# Altium footprint library Inductor_SMD.PcbLib: 587 footprints (part 23 of 37)
Each footprint in its own frame and in the unit in brackets; x right, y up, seen from the top. Pads: shape width x height; smd on the part's side, far side on the other; paste and mask are expansions set on the pad; w line width, h text height; cw(c..) or ccw(c..) is an arc to the next point about the centre after c.
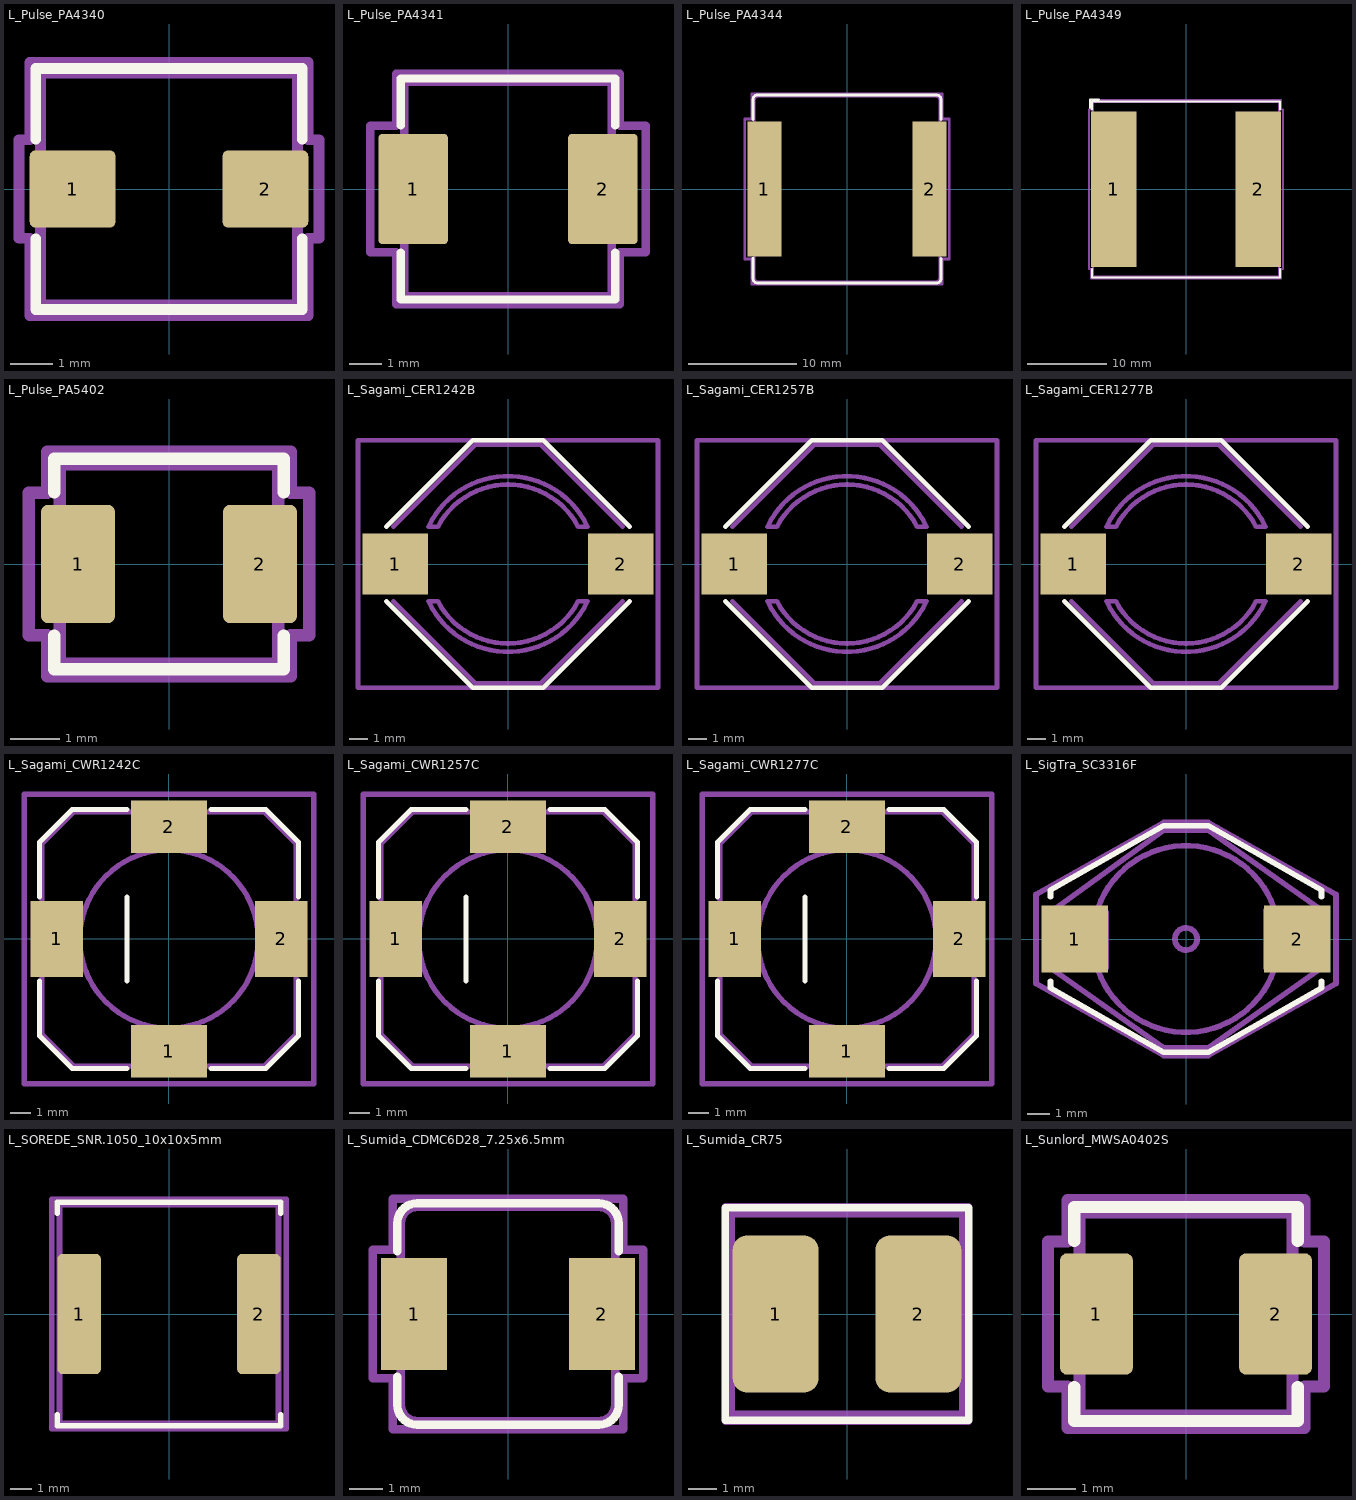
[diagram p22: the footprints below, top view; thin cyan lines are the x and y axes]

## L_Pulse_PA4340 [mm] "L_Pulse_PA4340"
pads (2):
  rrect14% 2x1.8 smd: 1(-2.25,0) 2(2.25,0)
F.SilkS:
  lines w0.254: -3.11,-1.16 -3.11,-2.81 3.11,-2.81 3.11,-1.16 ; -3.11,1.16 -3.11,2.81 3.11,2.81 3.11,1.16
Top Assembly:
  lines w0.254: -3,-2.7 3,-2.7 3,2.7 -3,2.7 -3,-2.7
  text "'.Designator'" at -4.047,-0.84 h1
Top Courtyard:
  lines w0.254: -3.5,-1.15 -3.25,-1.15 -3.25,-2.95 3.25,-2.95 3.25,-1.15 3.5,-1.15 3.5,1.15 3.25,1.15 3.25,2.95 -3.25,2.95 -3.25,1.15 -3.5,1.15 -3.5,-1.15
Top Designator:
  text ".Designator" at -7.768,-0.508 h1.52
3D body "L_Pulse_PA4340.step": height 3, standoff 0, extent -3.01,-2.7 3.01,2.7

## L_Pulse_PA4341 [mm] "L_Pulse_PA4341"
pads (2):
  rrect12% 2.15x3.4 smd: 1(-2.925,0) 2(2.925,0)
F.SilkS:
  lines w0.254: -3.31,-1.96 -3.31,-3.41 3.31,-3.41 3.31,-1.96 ; -3.31,1.96 -3.31,3.41 3.31,3.41 3.31,1.96
Top Assembly:
  lines w0.254: -3.2,-3.3 3.2,-3.3 3.2,3.3 -3.2,3.3 -3.2,-3.3
  text "'.Designator'" at -4.047,-0.84 h1
Top Courtyard:
  lines w0.254: -4.25,-1.95 -3.45,-1.95 -3.45,-3.55 3.45,-3.55 3.45,-1.95 4.25,-1.95 4.25,1.95 3.45,1.95 3.45,3.55 -3.45,3.55 -3.45,1.95 -4.25,1.95 -4.25,-1.95
Top Designator:
  text ".Designator" at -7.618,-0.508 h1.52
3D body "L_Pulse_PA4341.step": height 2.8, standoff 0, extent -3.56,-3.3 3.56,3.3

## L_Pulse_PA4344 [mm] "L_Pulse_PA4344"
pads (2):
  rect 3.15x12.5 smd: 1(-7.675,0) 2(7.675,0)
F.SilkS:
  lines w0.254: -8.721,8.35 cw(c-8.35,8.35) -8.37,8.72 ; -8.72,-8.36 ccw(c-8.35,-8.35) -8.35,-8.72 8.35,-8.72 ccw(c8.35,-8.35) 8.72,-8.35 8.72,-6.45 ; -8.72,-8.34 -8.72,-6.44 ; -8.72,6.45 -8.72,8.35 ; -8.35,8.72 8.35,8.72 cw(c8.35,8.35) 8.72,8.36 8.72,6.46
Top Assembly:
  lines w0.254: -8.6,-8.3 ccw(c-8.3,-8.3) -8.3,-8.6 8.3,-8.6 ccw(c8.3,-8.3) 8.6,-8.3 8.6,8.3 ccw(c8.3,8.3) 8.3,8.6 -8.3,8.6 ccw(c-8.3,8.3) -8.6,8.3 -8.6,-8.3
  text "'.Designator'" at -4.047,-0.84 h1
Top Courtyard:
  lines w0.254: -9.5,-6.5 -8.85,-6.5 -8.85,-8.85 8.85,-8.85 8.85,-6.5 9.5,-6.5 9.5,6.5 8.85,6.5 8.85,8.85 -8.85,8.85 -8.85,6.5 -9.5,6.5 -9.5,-6.5
Top Designator:
  text ".Designator" at -7.618,-0.508 h1.52

## L_Pulse_PA4349 [mm] "L_Pulse_PA4349"
pads (2):
  rect 5.75x19.6 smd: 1(-9.125,0) 2(9.125,0)
F.SilkS:
  lines w0.254: -12.1,10.25 -12.1,11.35 -11,11.35 ; -11.85,-10.06 -11.85,-11.1 11.85,-11.1 11.85,-10.06 ; -11.85,10.06 -11.85,11.1 11.85,11.1 11.85,10.06
Top Assembly:
  lines w0.254: -11.75,-11 11.75,-11 11.75,11 -11.75,11 -11.75,-11
  text "'.Designator'" at -4.047,-0.84 h1
Top Courtyard:
  lines w0.254: -12.25,-10.05 -12,-10.05 -12,-11.25 12,-11.25 12,-10.05 12.25,-10.05 12.25,10.05 12,10.05 12,11.25 -12,11.25 -12,10.05 -12.25,10.05 -12.25,-10.05
Top Designator:
  text ".Designator" at -7.618,-0.458 h1.52

## L_Pulse_PA5402 [mm] "L_Pulse_PA5402"
pads (2):
  rrect17% 1.5x2.4 smd: 1(-1.85,0) 2(1.85,0)
F.SilkS:
  lines w0.254: -2.335,-1.46 -2.335,-2.14 2.335,-2.14 2.335,-1.46 ; -2.335,1.46 -2.335,2.14 2.335,2.14 2.335,1.46
Top Assembly:
  lines w0.254: -2.225,-2.03 -2.225,2.03 2.225,2.03 2.225,-2.03 -2.225,-2.03
  text "'.Designator'" at -4.047,-0.84 h1
Top Courtyard:
  lines w0.254: -2.85,-1.45 -2.85,1.45 -2.48,1.45 -2.48,2.28 2.48,2.28 2.48,1.45 2.85,1.45 2.85,-1.45 2.48,-1.45 2.48,-2.28 -2.48,-2.28 -2.48,-1.45 -2.85,-1.45
Top Designator:
  text ".Designator" at -7.768,-0.508 h1.52
3D body "L_Pulse_PA5402.step": height 1.8, standoff 0, extent -2.235,-2.03 2.235,2.03

## L_Sagami_CER1242B [mm] "L_Sagami_CER1242B"
pads (2):
  rect 3.55x3.3 smd: 1(-6.125,0) 2(6.125,0)
F.SilkS:
  lines w0.254: -6.604,-2.032 -1.905,-6.731 1.905,-6.731 6.604,-2.032 ; -6.604,2.032 -1.905,6.731 1.905,6.731 6.604,2.032
Top Assembly:
  lines w0.254: -6.223,-2.032 -1.778,-6.477 1.778,-6.477 6.223,-2.032 ; -6.223,2.032 -1.778,6.477 1.778,6.477 6.223,2.032 ; -2.032,-4.318 ccw(c0,0) 4.318,-2.032 3.81,-2.032 cw(c0,0) -2.032,-3.81 ; -2.032,3.81 cw(c0,0) 3.81,2.032 4.318,2.032 ccw(c0,0) -2.032,4.318 ; 2.032,-4.318 cw(c0,0) -4.318,-2.032 -3.81,-2.032 ccw(c0,0) 2.032,-3.81 ; 2.032,3.81 ccw(c0,0) -3.81,2.032 -4.318,2.032 cw(c0,0) 2.032,4.318
  text "'.Designator'" at -4.047,-0.84 h1
Top Courtyard:
  lines w0.254: -8.15,-6.73 -8.15,6.73 8.15,6.73 8.15,-6.73 -8.15,-6.73
Top Designator:
  text ".Designator" at -7.618,-0.508 h1.52

## L_Sagami_CER1257B [mm] "L_Sagami_CER1257B"
pads (2):
  rect 3.55x3.3 smd: 1(-6.125,0) 2(6.125,0)
F.SilkS:
  lines w0.254: -6.604,-2.032 -1.905,-6.731 1.905,-6.731 6.604,-2.032 ; -6.604,2.032 -1.905,6.731 1.905,6.731 6.604,2.032
Top Assembly:
  lines w0.254: -6.223,-2.032 -1.778,-6.477 1.778,-6.477 6.223,-2.032 ; -6.223,2.032 -1.778,6.477 1.778,6.477 6.223,2.032 ; -2.032,-4.318 ccw(c0,0) 4.318,-2.032 3.81,-2.032 cw(c0,0) -2.032,-3.81 ; -2.032,3.81 cw(c0,0) 3.81,2.032 4.318,2.032 ccw(c0,0) -2.032,4.318 ; 2.032,-4.318 cw(c0,0) -4.318,-2.032 -3.81,-2.032 ccw(c0,0) 2.032,-3.81 ; 2.032,3.81 ccw(c0,0) -3.81,2.032 -4.318,2.032 cw(c0,0) 2.032,4.318
  text "'.Designator'" at -4.047,-0.84 h1
Top Courtyard:
  lines w0.254: -8.15,-6.73 -8.15,6.73 8.15,6.73 8.15,-6.73 -8.15,-6.73
Top Designator:
  text ".Designator" at -7.618,-0.508 h1.52

## L_Sagami_CER1277B [mm] "L_Sagami_CER1277B"
pads (2):
  rect 3.55x3.3 smd: 1(-6.125,0) 2(6.125,0)
F.SilkS:
  lines w0.254: -6.604,-2.032 -1.905,-6.731 1.905,-6.731 6.604,-2.032 ; -6.604,2.032 -1.905,6.731 1.905,6.731 6.604,2.032
Top Assembly:
  lines w0.254: -6.223,-2.032 -1.778,-6.477 1.778,-6.477 6.223,-2.032 ; -6.223,2.032 -1.778,6.477 1.778,6.477 6.223,2.032 ; -2.032,-4.318 ccw(c0,0) 4.318,-2.032 3.81,-2.032 cw(c0,0) -2.032,-3.81 ; -2.032,3.81 cw(c0,0) 3.81,2.032 4.318,2.032 ccw(c0,0) -2.032,4.318 ; 2.032,-4.318 cw(c0,0) -4.318,-2.032 -3.81,-2.032 ccw(c0,0) 2.032,-3.81 ; 2.032,3.81 ccw(c0,0) -3.81,2.032 -4.318,2.032 cw(c0,0) 2.032,4.318
  text "'.Designator'" at -4.047,-0.84 h1
Top Courtyard:
  lines w0.254: -8.15,-6.73 8.15,-6.73 8.15,6.73 -8.15,6.73 -8.15,-6.73
Top Designator:
  text ".Designator" at -7.618,-0.508 h1.52

## L_Sagami_CWR1242C [mm] "L_Sagami_CWR1242C"
pads (4):
  rect 2.5x3.6 smd: 1(-5.35,0) 2(5.35,0)
  rect 3.6x2.5 smd: 1(0,-5.35) 2(0,5.35)
F.SilkS:
  lines w0.254: -6.17,-2 -6.17,-4.61 -4.61,-6.17 -2,-6.17 ; -6.17,2 -6.17,4.61 -4.61,6.17 -2,6.17 ; -2,-2 -2,2 ; 2,-6.17 4.61,-6.17 6.17,-4.61 6.17,-2 ; 2,6.17 4.61,6.17 6.17,4.61 6.17,2
Top Assembly:
  circle w0.254: c0,0 r4.25
  lines w0.254: -6.05,-4.55 -4.55,-6.05 4.55,-6.05 6.05,-4.55 6.05,4.55 4.55,6.05 -4.55,6.05 -6.05,4.55 -6.05,-4.55
  text "'.Designator'" at -3.997,-0.79 h1
Top Courtyard:
  lines w0.254: -6.9,-6.9 6.9,-6.9 6.9,6.9 -6.9,6.9 -6.9,-6.9
Top Designator:
  text ".Designator" at -7.618,-0.508 h1.52

## L_Sagami_CWR1257C [mm] "L_Sagami_CWR1257C"
pads (4):
  rect 2.5x3.6 smd: 1(-5.35,0) 2(5.35,0)
  rect 3.6x2.5 smd: 1(0,-5.35) 2(0,5.35)
F.SilkS:
  lines w0.254: -6.17,-2 -6.17,-4.61 -4.61,-6.17 -2,-6.17 ; -6.17,2 -6.17,4.61 -4.61,6.17 -2,6.17 ; -2,-2 -2,2 ; 2,-6.17 4.61,-6.17 6.17,-4.61 6.17,-2 ; 2,6.17 4.61,6.17 6.17,4.61 6.17,2
Top Assembly:
  circle w0.254: c0,0 r4.25
  lines w0.254: -6.05,-4.55 -4.55,-6.05 4.55,-6.05 6.05,-4.55 6.05,4.55 4.55,6.05 -4.55,6.05 -6.05,4.55 -6.05,-4.55
  text "'.Designator'" at -3.997,-0.79 h1
Top Courtyard:
  lines w0.254: -6.9,-6.9 6.9,-6.9 6.9,6.9 -6.9,6.9 -6.9,-6.9
Top Designator:
  text ".Designator" at -7.618,-0.508 h1.52

## L_Sagami_CWR1277C [mm] "L_Sagami_CWR1277C"
pads (4):
  rect 2.5x3.6 smd: 1(-5.35,0) 2(5.35,0)
  rect 3.6x2.5 smd: 1(0,-5.35) 2(0,5.35)
F.SilkS:
  lines w0.254: -6.17,-2 -6.17,-4.61 -4.61,-6.17 -2,-6.17 ; -6.17,2 -6.17,4.61 -4.61,6.17 -2,6.17 ; -2,-2 -2,2 ; 2,-6.17 4.61,-6.17 6.17,-4.61 6.17,-2 ; 2,6.17 4.61,6.17 6.17,4.61 6.17,2
Top Assembly:
  circle w0.254: c0,0 r4.25
  lines w0.254: -6.05,-4.55 -4.55,-6.05 4.55,-6.05 6.05,-4.55 6.05,4.55 4.55,6.05 -4.55,6.05 -6.05,4.55 -6.05,-4.55
  text "'.Designator'" at -3.997,-0.79 h1
Top Courtyard:
  lines w0.254: -6.9,-6.9 6.9,-6.9 6.9,6.9 -6.9,6.9 -6.9,-6.9
Top Designator:
  text ".Designator" at -7.618,-0.508 h1.52

## L_SigTra_SC3316F [mm] "L_SigTra_SC3316F"
pads (2):
  rect 3x3 smd: 1(-5,0) 2(5,0)
F.SilkS:
  lines w0.254: -6.1,-1.9 -6.1,-2.2 -1,-5.1 1,-5.1 6.1,-2.2 6.1,-1.9 ; -6.1,1.9 -6.1,2.2 -1,5.1 1,5.1 6.1,2.2 6.1,1.9
Top Assembly:
  circle w0.254: c0,0 r4.2
  lines w0.254: -6.1,-1.3 -6.1,1.2 ; -6.1,-1.3 -3.6,-1.3 -3.6,0 -3.6,1.2 -6.1,1.2 ; -6.1,-1.3 -1,-4.9 1,-4.9 6.1,-1.3 ; -6.1,1.2 -1,4.9 1,4.9 6.1,1.3 ; 6.1,-1.3 6.1,1.3 ; 6.1,-1.3 3.6,-1.3 3.6,1.3 6.1,1.3
  text "'.Designator'" at -4.047,-0.84 h1
Top Courtyard:
  lines w0.254: -6.75,-2 -6.75,2 -1,5.25 1,5.25 6.75,2 6.75,-2 1,-5.25 -1,-5.25 -6.75,-2
Top Designator:
  text ".Designator" at -7.618,-0.508 h1.52
Top Glue Points:
  circle w0.254: c0,0 r0.5

## L_SOREDE_SNR.1050_10x10x5mm [mm] "L_SOREDE_SNR.1050_10x10x5mm"
pads (2):
  rrect25% 2x5.5 smd: 1(-4.1,0) 2(4.1,0)
F.SilkS:
  lines w0.254: -5.1,-4.6 -5.1,-5.1 5.1,-5.1 5.1,-4.6 ; -5.1,4.6 -5.1,5.1 5.1,5.1 5.1,4.6
Top Assembly:
  lines w0.254: -5,-5 5,-5 5,5 -5,5 -5,-5
  text "'.Designator'" at -4.047,-0.84 h1
Top Courtyard:
  lines w0.254: -5.35,-5.25 5.35,-5.25 5.35,5.25 -5.35,5.25 -5.35,-5.25
Top Designator:
  text ".Designator" at -7.618,-0.508 h1.52

## L_Sumida_CDMC6D28_7.25x6.5mm [mm] "L_Sumida_CDMC6D28_7.25x6.5mm"
pads (2):
  rect 2x3.4 smd: 1(-2.85,0) 2(2.85,0)
F.SilkS:
  lines w0.254: -3.36,-1.9 -3.36,-2.75 ccw(c-2.75,-2.75) -2.75,-3.36 2.75,-3.36 ccw(c2.75,-2.75) 3.36,-2.75 3.36,-1.9 ; -3.36,1.9 -3.36,2.75 cw(c-2.75,2.75) -2.75,3.36 2.75,3.36 cw(c2.75,2.75) 3.36,2.75 3.36,1.9
Top Assembly:
  lines w0.254: -3.25,-2.75 ccw(c-2.75,-2.75) -2.75,-3.25 2.75,-3.25 ccw(c2.75,-2.75) 3.25,-2.75 3.25,2.75 ccw(c2.75,2.75) 2.75,3.25 -2.75,3.25 ccw(c-2.75,2.75) -3.25,2.75 -3.25,-2.75
  text "'.Designator'" at -4.047,-0.84 h1
Top Courtyard:
  lines w0.254: -4.1,-1.95 -4.1,1.95 -3.5,1.95 -3.5,3.5 3.5,3.5 3.5,1.95 4.1,1.95 4.1,-1.95 3.5,-1.95 3.5,-3.5 -3.5,-3.5 -3.5,-1.95 -4.1,-1.95
Top Designator:
  text ".Designator" at -7.618,-0.508 h1.52

## L_Sumida_CR75 [mm] "L_Sumida_CR75"
pads (2):
  rrect33% 3x5.5 smd: 1(-2.5,0) 2(2.5,0)
F.SilkS:
  lines w0.254: -4.26,-3.72 -4.26,3.72 4.26,3.72 4.26,-3.72 -4.26,-3.72
Top Assembly:
  lines w0.254: -4.04,-3.5 -4.04,3.5 4.04,3.5 4.04,-3.5 -4.04,-3.5
  text "'.Designator'" at -4.047,-0.76 h1
Top Courtyard:
  lines w0.254: -4.25,-3.75 -4.25,3.75 4.25,3.75 4.25,-3.75 -4.25,-3.75
Top Designator:
  text ".Designator" at -7.618,-0.508 h1.52

## L_Sunlord_MWSA0402S [mm] "L_Sunlord_MWSA0402S"
pads (2):
  rrect17% 1.5x2.5 smd: 1(-1.85,0) 2(1.85,0)
F.SilkS:
  lines w0.254: -2.31,-1.51 -2.31,-2.21 2.31,-2.21 2.31,-1.51 ; -2.31,1.51 -2.31,2.21 2.31,2.21 2.31,1.51
Top Assembly:
  lines w0.254: -2.2,-2.1 -2.2,2.1 2.2,2.1 2.2,-2.1 -2.2,-2.1
  text "'.Designator'" at -4.047,-0.84 h1
Top Courtyard:
  lines w0.254: -2.85,-1.5 -2.85,1.5 -2.45,1.5 -2.45,2.35 2.45,2.35 2.45,1.5 2.85,1.5 2.85,-1.5 2.45,-1.5 2.45,-2.35 -2.45,-2.35 -2.45,-1.5 -2.85,-1.5
Top Designator:
  text ".Designator" at -7.768,-0.508 h1.52
3D body "L_Sunlord_MWSA0402S.step": height 1.8, standoff 0, extent -2.205,-2.1 2.205,2.1